# EAGLE library part 87340-12 (library con-molex-milli-grid)
RECEPTACAL
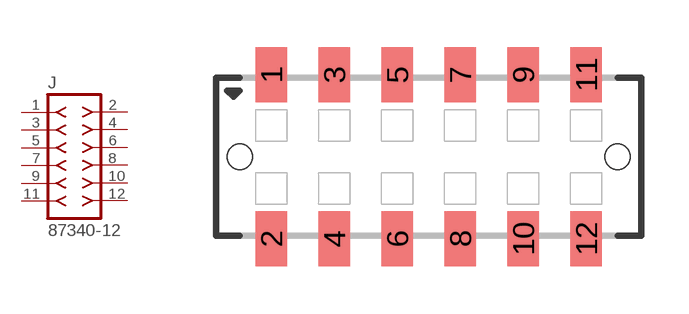
[diagram p230: symbol with the pads of 87340-12; footprint 87340-12]

Designator prefix J

## 87340-12  [87340-12]
1  1  pas
2  2  pas
3  3  pas
4  4  pas
5  5  pas
6  6  pas
7  7  pas
8  8  pas
9  9  pas
10  10  pas
11  11  pas
12  12  pas

## Footprint 87340-12 (pad centres in mm)
RECEPTACAL SMD Dual Row, Vertical, Low Profile
smd 1 x 1.75: 1 -5,2.6; 2 -5,-2.6; 3 -3,2.6; 4 -3,-2.6; 5 -1,2.6; 6 -1,-2.6; 7 1,2.6; 8 1,-2.6; 9 3,2.6; 10 3,-2.6; 11 5,2.6; 12 5,-2.6
hole 0.8 at -6,0
hole 0.8 at 6,0